# Altium footprint library QSH-030-01-x-D-A.PcbLib: 1 footprints
Each footprint in its own frame and in the unit in brackets; x right, y up, seen from the top. Pads: shape width x height; smd on the part's side, far side on the other; paste and mask are expansions set on the pad; w line width, h text height; cw(c..) or ccw(c..) is an arc to the next point about the centre after c.
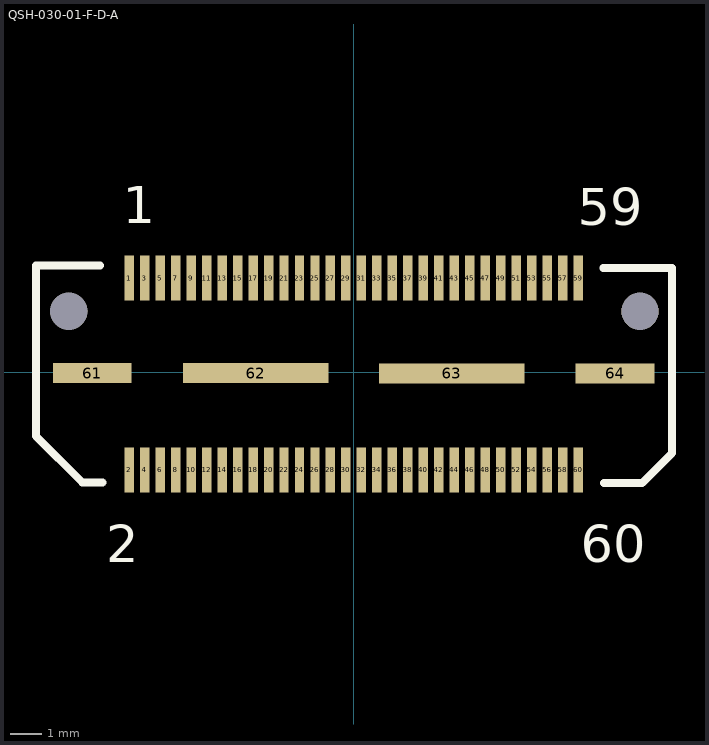
[diagram p0: the footprint, top view; thin cyan lines are the x and y axes]

## QSH-030-01-F-D-A [mm] "CONN HEADER 60POS 0.5MM SMT"
height 8
pads (66):
  rect 0.305x1.45 smd: 1(-7.26,3.05) 2(-7.26,-3.15) 3(-6.76,3.05) 4(-6.76,-3.15) 5(-6.26,3.05) 6(-6.26,-3.15) 7(-5.76,3.05) 8(-5.76,-3.15) 9(-5.26,3.05) 10(-5.26,-3.15) 11(-4.76,3.05) 12(-4.76,-3.15) 13(-4.26,3.05) 14(-4.26,-3.15) 15(-3.76,3.05) 16(-3.76,-3.15) 17(-3.26,3.05) 18(-3.26,-3.15) 19(-2.76,3.05) 20(-2.76,-3.15) 21(-2.26,3.05) 22(-2.26,-3.15) 23(-1.76,3.05) 24(-1.76,-3.15) 25(-1.26,3.05) 26(-1.26,-3.15) 27(-0.76,3.05) 28(-0.76,-3.15) 29(-0.26,3.05) 30(-0.26,-3.15) 31(0.24,3.05) 32(0.24,-3.15) 33(0.74,3.05) 34(0.74,-3.15) 35(1.24,3.05) 36(1.24,-3.15) 37(1.74,3.05) 38(1.74,-3.15) 39(2.24,3.05) 40(2.24,-3.15) 41(2.74,3.05) 42(2.74,-3.15) 43(3.24,3.05) 44(3.24,-3.15) 45(3.74,3.05) 46(3.74,-3.15) 47(4.24,3.05) 48(4.24,-3.15) 49(4.74,3.05) 50(4.74,-3.15) 51(5.24,3.05) 52(5.24,-3.15) 53(5.74,3.05) 54(5.74,-3.15) 55(6.24,3.05) 56(6.24,-3.15) 57(6.74,3.05) 58(6.74,-3.15) 59(7.24,3.05) 60(7.24,-3.15)
  rect 2.54x0.64 smd: 61(-8.45,-0.02) 64(8.43,-0.03)
  rect 4.7x0.64 smd: 62(-3.18,-0.02) 63(3.16,-0.03)
  round 1.2 hole 1.2 unplated paste+0 mask+0: ""(-9.21,1.975) ""(9.235,1.975)
Top Overlay:
  lines w0.254: -8.2,3.45 -10.275,3.45 -10.275,-2.05 -8.775,-3.55 -8.125,-3.55 ; 8.05,3.375 10.275,3.375 10.275,-2.6 9.3,-3.575 8.075,-3.575
  text "59" at 7.225,4.75 h1.2
  text "60" at 7.325,-6.125 h1.2
  text "2" at -8,-6.125 h1.2
  text "1" at -7.475,4.825 h1.2
3D body "QTH-030-01-F-D-A.stp": height 4.06, standoff -0.97, extent -10.007,-3.606 10.008,3.506